# EAGLE library part 16F676 (library BME_Components)
FLASH-Based 8-Bit CMOS Microcontroller, 10-Bit A/D, 1K (x14-Bit words) FLASH, 64 Bytes SRAM, 14-Pin PDIP, 2.0 to 5.5V Supply Range, Industrial Temperature
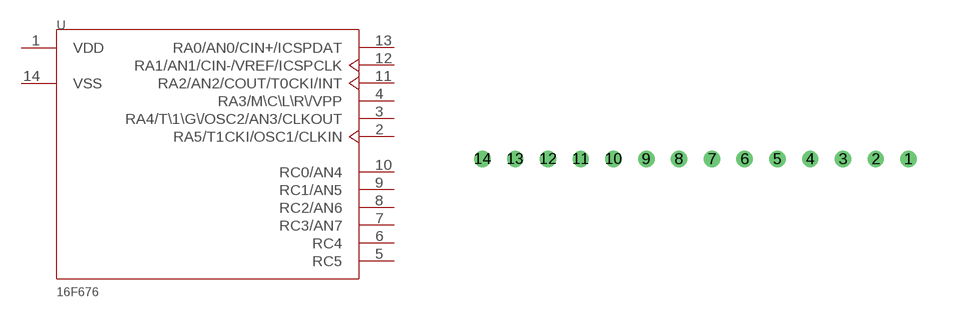
[diagram p17: symbol with the pads of 16F676_PDIP-14; footprint 16F676_PDIP-14]

Designator prefix U

## 16F67616F676_16F676_PDIP-14 (DATASHEETVERSION: revE, Mar-2007; PACKAGEDESCRIPTION: 14-Lead Plastic Dual In-Line (P) - 300 mil Body [PDIP]; PACKAGEREFERENCE: PDIP300-P14; PACKAGEVERSION: revBB, Aug-2009)  [16F676_PDIP-14]
1  VDD  pwr
2  RA5/T1CKI/OSC1/CLKIN
3  RA4/T\1\G\/OSC2/AN3/CLKOUT
4  RA3/M\C\L\R\/VPP
5  RC5
6  RC4
7  RC3/AN7
8  RC2/AN6
9  RC1/AN5
10  RC0/AN4
11  RA2/AN2/COUT/T0CKI/INT
12  RA1/AN1/CIN-/VREF/ICSPCLK
13  RA0/AN0/CIN+/ICSPDAT
14  VSS  pwr

## Footprint 16F676_PDIP-14 (pad centres in mm)
drill 0.127 pad 0.254 round: 1 16.51,0; 2 15.24,0; 3 13.97,0; 4 12.7,0; 5 11.43,0; 6 10.16,0; 7 8.89,0; 8 7.62,0; 9 6.35,0; 10 5.08,0; 11 3.81,0; 12 2.54,0; 13 1.27,0; 14 0,0